# Altium schematic symbol library TiSupervisoryController.SCHLIB: 7 symbols
Pins are listed as number, name and electrical type; pins without a type are passive.

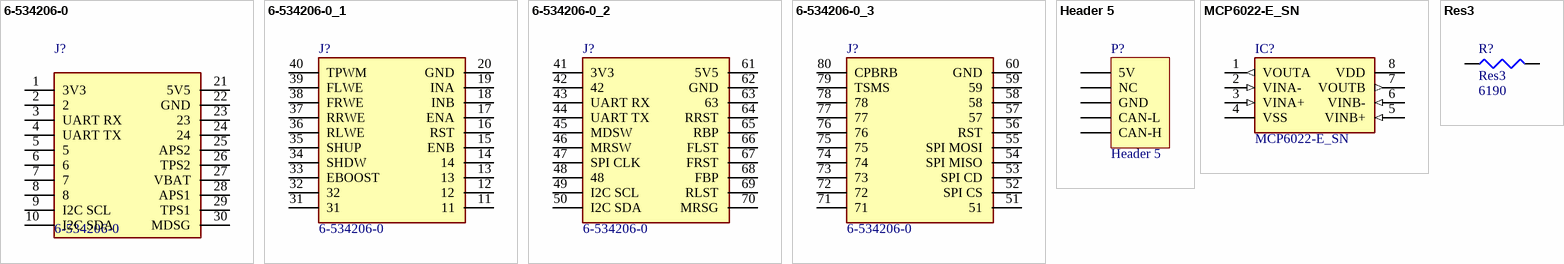
[diagram p0: symbols 6-534206-0 to Res3]

## 6-534206-0
designator J?
Connector; Manufacturer_Name: TE Connectivity; Allied_Number: 70042958; Datasheet Link: https://www.te.com/commerce/DocumentDelivery/DDEController?Action=showdoc&DocId=Customer+Drawing%7F534206%7FR7%7Fpdf%7FEnglish%7FENG_CD_534206_R7.pdf%7F6-534206-0; Height: 8.64mm; Manufacturer_Part_Number: 6-534206-0; Mouser Part Number: 571-6-534206-0; Mouser Price/Stock: https://www.mouser.com/Search/Refine.aspx?Keyword=571-6-534206-0; RS Part Number: 6803445P; RS Price/Stock: http://uk.rs-online.com/web/p/products/6803445P; Allied Price/Stock: https://www.alliedelec.com/teconnectivity-6-534206-0/70042958/
footprint 206-0
pins: 1 3V3, 2, 3 UART RX, 4 UART TX, 5, 6, 7, 8, 9 I2C SCL, 10 I2C SDA, 21 5V5, 22 GND, 23, 24, 25 APS2, 26 TPS2, 27 VBAT, 28 APS1, 29 TPS1, 30 MDSG

## 6-534206-0_1
designator J?, comment 6-534206-0
Connector; Manufacturer_Name: TE Connectivity; Allied_Number: 70042958; Datasheet Link: https://www.te.com/commerce/DocumentDelivery/DDEController?Action=showdoc&DocId=Customer+Drawing%7F534206%7FR7%7Fpdf%7FEnglish%7FENG_CD_534206_R7.pdf%7F6-534206-0; Height: 8.64mm; Manufacturer_Part_Number: 6-534206-0; Mouser Part Number: 571-6-534206-0; Mouser Price/Stock: https://www.mouser.com/Search/Refine.aspx?Keyword=571-6-534206-0; RS Part Number: 6803445P; RS Price/Stock: http://uk.rs-online.com/web/p/products/6803445P; Allied Price/Stock: https://www.alliedelec.com/teconnectivity-6-534206-0/70042958/
footprint 206-0_1
pins: 11, 12, 13, 14, 15 ENB, 16 RST, 17 ENA, 18 INB, 19 INA, 20 GND, 31, 32, 33 EBOOST, 34 SHDW, 35 SHUP, 36 RLWE, 37 RRWE, 38 FRWE, 39 FLWE, 40 TPWM

## 6-534206-0_2
designator J?, comment 6-534206-0
Connector; Manufacturer_Name: TE Connectivity; Allied_Number: 70042958; Datasheet Link: https://www.te.com/commerce/DocumentDelivery/DDEController?Action=showdoc&DocId=Customer+Drawing%7F534206%7FR7%7Fpdf%7FEnglish%7FENG_CD_534206_R7.pdf%7F6-534206-0; Height: 8.64mm; Manufacturer_Part_Number: 6-534206-0; Mouser Part Number: 571-6-534206-0; Mouser Price/Stock: https://www.mouser.com/Search/Refine.aspx?Keyword=571-6-534206-0; RS Part Number: 6803445P; RS Price/Stock: http://uk.rs-online.com/web/p/products/6803445P; Allied Price/Stock: https://www.alliedelec.com/teconnectivity-6-534206-0/70042958/
footprint 206-0_2
pins: 41 3V3, 42, 43 UART RX, 44 UART TX, 45 MDSW, 46 MRSW, 47 SPI CLK, 48, 49 I2C SCL, 50 I2C SDA, 61 5V5, 62 GND, 63, 64 RRST, 65 RBP, 66 FLST, 67 FRST, 68 FBP, 69 RLST, 70 MRSG

## 6-534206-0_3
designator J?, comment 6-534206-0
Connector; Manufacturer_Name: TE Connectivity; Allied_Number: 70042958; Datasheet Link: https://www.te.com/commerce/DocumentDelivery/DDEController?Action=showdoc&DocId=Customer+Drawing%7F534206%7FR7%7Fpdf%7FEnglish%7FENG_CD_534206_R7.pdf%7F6-534206-0; Height: 8.64mm; Manufacturer_Part_Number: 6-534206-0; Mouser Part Number: 571-6-534206-0; Mouser Price/Stock: https://www.mouser.com/Search/Refine.aspx?Keyword=571-6-534206-0; RS Part Number: 6803445P; RS Price/Stock: http://uk.rs-online.com/web/p/products/6803445P; Allied Price/Stock: https://www.alliedelec.com/teconnectivity-6-534206-0/70042958/
footprint 206-0_3
pins: 51, 52 SPI CS, 53 SPI CD, 54 SPI MISO, 55 SPI MOSI, 56 RST, 57, 58, 59, 60 GND, 71, 72, 73, 74, 75, 76, 77, 78, 79 TSMS, 80 CPBRB

## Header 5
designator P?
Header, 5-Pin; LatestRevisionDate: 17-Jul-2002; LatestRevisionNote: Re-released for DXP Platform.; Publisher: Altium Limited
footprint HDR1X5 (Connector; Header; 5 Position)
signal-integrity model Connector
pins: 1 5V, 2 NC, 3 GND, 4 CAN-L, 5 CAN-H

## MCP6022-E_SN
designator IC?
Integrated Circuit; Manufacturer_Name: Microchip; Manufacturer_Part_Number: MCP6022-E/SN; Allied_Number: 70046166; Datasheet Link: http://ww1.microchip.com/downloads/en/DeviceDoc/21685d.pdf; Height: 1.75mm; Mouser Part Number: 579-MCP6022-E/SN; Mouser Price/Stock: https://www.mouser.com/Search/Refine.aspx?Keyword=579-MCP6022-E%2FSN; RS Part Number: 2508396144; RS Price/Stock: http://uk.rs-online.com/web/p/products/2508396144; Allied Price/Stock: http://www.alliedelec.com/microchip-technology-inc-mcp6022-e-sn/70046166/
footprint SOIC127P600X175-8N
pins: 1 VOUTA (out), 2 VINA- (in), 3 VINA+ (in), 4 VSS (power), 5 VINB+ (in), 6 VINB- (in), 7 VOUTB (out), 8 VDD (power)

## Res3
designator R?  value 6190
Resistor; Published: 8-Jun-2000; LatestRevisionDate: 29-May-2009; LatestRevisionNote: IPC-7351 Footprint Added.; PackageReference: J1-0603; Publisher: Altium Limited; PackageDescription: Chip Resistor
footprint J1-0603 (Chip Resistor, Body 1.6x0.8mm, IPC High Density)
footprint 14-1210 (Chip Resistor, Body 3.2x2.5mm, IPC High Density)
footprint 12Z-2010 (Chip Resistor, Body 5.0x2.5mm, IPC High Density)
footprint RESC6332 (Chip Resistor, Body 6.3x3.2mm, IPC High Density)
simulation model RESISTOR (Resistor)
signal-integrity model Res
pins: 1, 2